# Altium footprint library Microcontrolers.PcbLib: 11 footprints
Each footprint in its own frame and in the unit in brackets; x right, y up, seen from the top. Pads: shape width x height; smd on the part's side, far side on the other; paste and mask are expansions set on the pad; w line width, h text height; cw(c..) or ccw(c..) is an arc to the next point about the centre after c.
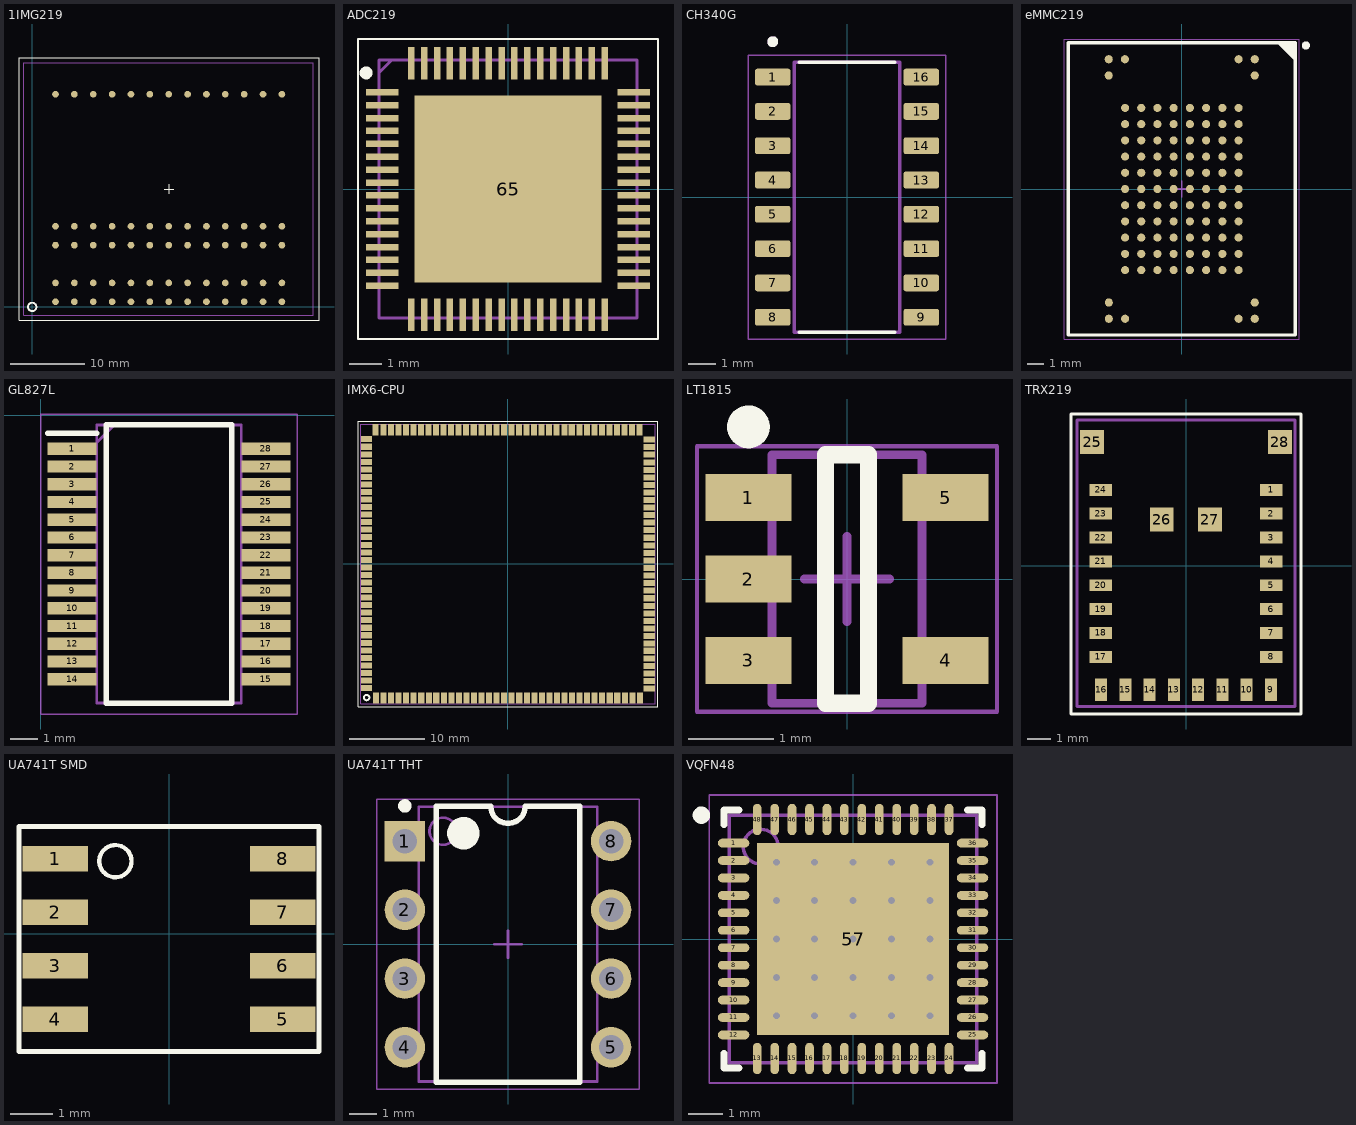
[diagram p0: the footprints below, top view; thin cyan lines are the x and y axes]

## 1IMG219 [mm]
pads (65):
  round 0.9 smd mask+0.102: A1(3.135,0.693) A2(5.675,0.693) A3(8.215,0.693) A4(10.755,0.693) A5(13.295,0.693) A6(15.835,0.693) A7(18.375,0.693) A8(20.915,0.693) A9(23.455,0.693) A10(25.995,0.693) A11(28.535,0.693) A12(31.075,0.693) A13(33.615,0.693) B1(3.135,3.233) B2(5.675,3.233) B3(8.215,3.233) B4(10.755,3.233) B5(13.295,3.233) B6(15.835,3.233) B7(18.375,3.233) B8(20.915,3.233) B9(23.455,3.233) B10(25.995,3.233) B11(28.535,3.233) B12(31.075,3.233) B13(33.615,3.233) D1(3.135,8.313) D2(5.675,8.313) D3(8.215,8.313) D4(10.755,8.313) D5(13.295,8.313) D6(15.835,8.313) D7(18.375,8.313) D8(20.915,8.313) D9(23.455,8.313) D10(25.995,8.313) D11(28.535,8.313) D12(31.075,8.313) D13(33.615,8.313) E1(3.135,10.853) E2(5.675,10.853) E3(8.215,10.853) E4(10.755,10.853) E5(13.295,10.853) E6(15.835,10.853) E7(18.375,10.853) E8(20.915,10.853) E9(23.455,10.853) E10(25.995,10.853) E11(28.535,10.853) E12(31.075,10.853) E13(33.615,10.853) M1(3.135,28.633) M2(5.675,28.633) M3(8.215,28.633) M4(10.755,28.633) M5(13.295,28.633) M6(15.835,28.633) M7(18.375,28.633) M8(20.915,28.633) M9(23.455,28.633) M10(25.995,28.633) M11(28.535,28.633) M12(31.075,28.633) M13(33.615,28.633)
Top Layer:
  lines w0.127: 31.075,28.633 31.151,28.633
Top Overlay:
  circle w0.254: c0,0 r0.568
  lines w0.127: 18.415,15.24 18.415,16.51 ; -1.778,-1.778 -1.778,0 -1.778,33.528 38.608,33.528 38.608,-1.778 -1.778,-1.778 ; 17.78,15.875 18.415,15.875 19.05,15.875 17.78,15.875
Mechanical 1:
  lines w0.127: 33.615,32.893 37.857,32.893 ; 37.857,28.633 37.857,32.893 ; 37.857,32.893 -1.143,32.893 -1.143,-1.107 37.857,-1.107 37.857,32.893

## ADC219 [mm]
pads (65):
  rect 1x0.2 smd: 1(-3.9,3) 2(-3.9,2.6) 3(-3.9,2.2) 4(-3.9,1.8) 5(-3.9,1.4) 6(-3.9,1) 7(-3.9,0.6) 8(-3.9,0.2) 9(-3.9,-0.2) 10(-3.9,-0.6) 11(-3.9,-1) 12(-3.9,-1.4) 13(-3.9,-1.8) 14(-3.9,-2.2) 15(-3.9,-2.6) 16(-3.9,-3) 33(3.9,-3) 34(3.9,-2.6) 35(3.9,-2.2) 36(3.9,-1.8) 37(3.9,-1.4) 38(3.9,-1) 39(3.9,-0.6) 40(3.9,-0.2) 41(3.9,0.2) 42(3.9,0.6) 43(3.9,1) 44(3.9,1.4) 45(3.9,1.8) 46(3.9,2.2) 47(3.9,2.6) 48(3.9,3)
  rect 0.2x1 smd: 17(-3,-3.9) 18(-2.6,-3.9) 19(-2.2,-3.9) 20(-1.8,-3.9) 21(-1.4,-3.9) 22(-1,-3.9) 23(-0.6,-3.9) 24(-0.2,-3.9) 25(0.2,-3.9) 26(0.6,-3.9) 27(1,-3.9) 28(1.4,-3.9) 29(1.8,-3.9) 30(2.2,-3.9) 31(2.6,-3.9) 32(3,-3.9) 49(3,3.9) 50(2.6,3.9) 51(2.2,3.9) 52(1.8,3.9) 53(1.4,3.9) 54(1,3.9) 55(0.6,3.9) 56(0.2,3.9) 57(-0.2,3.9) 58(-0.6,3.9) 59(-1,3.9) 60(-1.4,3.9) 61(-1.8,3.9) 62(-2.2,3.9) 63(-2.6,3.9) 64(-3,3.9)
  rect 5.8x5.8 smd: 65(0,0)
Top Overlay:
  circle w0.2: c-4.4,3.6 r0.1
  lines w0.05: -4.65,-4.65 -4.65,4.65 4.65,4.65 4.65,-4.65 -4.65,-4.65
Mechanical 13:
  lines w0.1: -4,3.6 -3.6,4 ; -4,-4 -4,4 4,4 4,-4 -4,-4
3D body "TPS650940A0RSKR.stp": height 0.98, standoff 0, extent -4,-4 4,4

## CH340G [mm] "SOIC127P600X180-16N"
pads (16):
  rrect25% 1.31x0.62 smd: 1(-2.75,4.445) 2(-2.75,3.175) 3(-2.75,1.905) 4(-2.75,0.635) 5(-2.75,-0.635) 6(-2.75,-1.905) 7(-2.75,-3.175) 8(-2.75,-4.445) 9(2.75,-4.445) 10(2.75,-3.175) 11(2.75,-1.905) 12(2.75,-0.635) 13(2.75,0.635) 14(2.75,1.905) 15(2.75,3.175) 16(2.75,4.445)
Top Overlay:
  circle w0.2: c-2.75,5.755 r0.1
  lines w0.127: -1.775,-5 1.775,-5 -1.775,-5 ; -1.775,5 1.775,5 -1.775,5
Mechanical 13:
  circle w0.2: c-2.75,5.755 r0.1
  lines w0.127: -1.95,-5 1.95,-5 1.95,5 -1.95,5 -1.95,-5
Mechanical 15:
  lines w0.05: -3.655,-5.25 -3.655,5.25 3.655,5.25 3.655,-5.25 -3.655,-5.25
3D body "step_temp.STEP": height 1.8, standoff 0, extent -3,-5 3,5

## eMMC219 [mm] "BGA, 88-Leads, Body 14,00x18,00mmx1,40mm, Pitch 1,00mm"
height 1.4
pads (100):
  round 0.5 smd: A1(4.503,8) A2(3.503,8) A9(-3.503,8) A10(-4.503,8) B1(4.503,7) B10(-4.503,7) D2(3.503,5) D3(2.503,5) D4(1.503,5) D5(0.503,5) D6(-0.497,5) D7(-1.497,5) D8(-2.497,5) D9(-3.497,5) E2(3.503,4) E3(2.503,4) E4(1.503,4) E5(0.503,4) E6(-0.497,4) E7(-1.497,4) E8(-2.497,4) E9(-3.497,4) F2(3.503,3) F3(2.503,3) F4(1.503,3) F5(0.503,3) F6(-0.497,3) F7(-1.497,3) F8(-2.497,3) F9(-3.497,3) G2(3.503,2) G3(2.503,2) G4(1.503,2) G5(0.503,2) G6(-0.497,2) G7(-1.497,2) G8(-2.497,2) G9(-3.497,2) H2(3.503,1) H3(2.503,1) H4(1.503,1) H5(0.503,1) H6(-0.497,1) H7(-1.497,1) H8(-2.497,1) H9(-3.497,1) J2(3.503,0) J3(2.503,0) J4(1.503,0) J5(0.503,0) J6(-0.497,0) J7(-1.497,0) J8(-2.497,0) J9(-3.497,0) K2(3.503,-1) K3(2.503,-1) K4(1.503,-1) K5(0.503,-1) K6(-0.497,-1) K7(-1.497,-1) K8(-2.497,-1) K9(-3.497,-1) L2(3.503,-2) L3(2.503,-2) L4(1.503,-2) L5(0.503,-2) L6(-0.497,-2) L7(-1.497,-2) L8(-2.497,-2) L9(-3.497,-2) M2(3.503,-3) M3(2.503,-3) M4(1.503,-3) M5(0.503,-3) M6(-0.497,-3) M7(-1.497,-3) M8(-2.497,-3) M9(-3.497,-3) N2(3.503,-4) N3(2.503,-4) N4(1.503,-4) N5(0.503,-4) N6(-0.497,-4) N7(-1.497,-4) N8(-2.497,-4) N9(-3.497,-4) P2(3.503,-5) P3(2.503,-5) P4(1.503,-5) P5(0.503,-5) P6(-0.497,-5) P7(-1.497,-5) P8(-2.497,-5) P9(-3.497,-5) T1(4.503,-7) T10(-4.497,-7) U1(4.503,-8) U2(3.503,-8) U9(-3.497,-8) U10(-4.497,-8)
Top Overlay:
  circle w0.25: c7.65,8.85 r0.125
  region: 6,9 7,8 7,9
  lines w0.2: 6,9 7,8 ; -7,-9 7,-9 7,9.017 -7,9.017 -7,-9
Mechanical 13:
  lines w0.1: -7,-9 7,-9 7,9 -7,9 -7,-9
Mechanical 15:
  lines w0.05: -7.25,-9.25 7.25,-9.25 7.25,9.25 -7.25,9.25 -7.25,-9.25
  lines w0.1: -0.5,0 0.5,0 ; 0,-0.5 0,0.5
3D body "BGA88C100P8X11_1400X1800X140.step": height 1.4, standoff 0, extent -7,-9 7,9

## GL827L [mm]
pads (28):
  rect 1.8x0.45 smd: 1(1.149,-1.236) 2(1.149,-1.886) 3(1.149,-2.536) 4(1.149,-3.186) 5(1.149,-3.836) 6(1.149,-4.486) 7(1.149,-5.136) 8(1.149,-5.786) 9(1.149,-6.436) 10(1.149,-7.086) 11(1.149,-7.736) 12(1.149,-8.386) 13(1.149,-9.036) 14(1.149,-9.686) 15(8.249,-9.686) 16(8.249,-9.036) 17(8.249,-8.386) 18(8.249,-7.736) 19(8.249,-7.086) 20(8.249,-6.436) 21(8.249,-5.786) 22(8.249,-5.136) 23(8.249,-4.486) 24(8.249,-3.836) 25(8.249,-3.186) 26(8.249,-2.536) 27(8.249,-1.886) 28(8.249,-1.236)
Top Overlay:
  lines w0.2: 0.249,-0.661 2.049,-0.661 ; 2.399,-10.561 2.399,-0.361 6.999,-0.361 6.999,-10.561 2.399,-10.561
Mechanical 13:
  lines w0.1: 2.049,-1.011 2.699,-0.361 ; 2.049,-10.561 2.049,-0.361 7.349,-0.361 7.349,-10.561 2.049,-10.561
Mechanical 15:
  lines w0.05: -0.001,-10.961 -0.001,0.039 9.399,0.039 9.399,-10.961 -0.001,-10.961
3D body "FT232RL-TUBE.stp": height 2, standoff 0, extent 0.799,-10.561 8.599,-0.361

## IMX6-CPU [mm]
pads (140):
  rect 0.8x1.5 smd mask+0.2: 1(-17.483,-17.769) 2(-16.483,-17.769) 3(-15.483,-17.769) 4(-14.483,-17.769) 5(-13.483,-17.769) 6(-12.483,-17.769) 7(-11.483,-17.769) 8(-10.483,-17.769) 9(-9.493,-17.769) 10(-8.493,-17.769) 11(-7.493,-17.769) 12(-6.501,-17.769) 13(-5.485,-17.769) 14(-4.493,-17.769) 15(-3.493,-17.769) 16(-2.493,-17.769) 17(-1.488,-17.769) 18(-0.497,-17.769) 19(0.503,-17.769) 20(1.503,-17.769) 21(2.503,-17.769) 22(3.503,-17.769) 23(4.503,-17.769) 24(5.503,-17.769) 25(6.493,-17.769) 26(7.493,-17.769) 27(8.493,-17.769) 28(9.493,-17.769) 29(10.493,-17.769) 30(11.493,-17.769) 31(12.493,-17.769) 32(13.493,-17.769) 33(14.491,-17.769) 34(15.491,-17.769) 35(16.491,-17.769) 36(17.502,-17.769) 71(17.467,17.769) 72(16.467,17.769) 73(15.46,17.769) 74(14.46,17.769) 75(13.46,17.769) 76(12.46,17.769) 77(11.46,17.769) 78(10.46,17.769) 79(9.46,17.769) 80(8.46,17.769) 81(7.47,17.769) 82(6.47,17.769) 83(5.47,17.769) 84(4.478,17.769) 85(3.462,17.769) 86(2.47,17.769) 87(1.47,17.769) 88(0.47,17.769) 89(-0.535,17.769) 90(-1.526,17.769) 91(-2.526,17.769) 92(-3.526,17.769) 93(-4.526,17.769) 94(-5.526,17.769) 95(-6.526,17.769) 96(-7.526,17.769) 97(-8.516,17.769) 98(-9.516,17.769) 99(-10.516,17.769) 100(-11.516,17.769) 101(-12.516,17.769) 102(-13.516,17.769) 103(-14.516,17.769) 104(-15.516,17.769) 105(-16.514,17.769) 106(-17.514,17.769)
  rect 1.5x0.8 smd mask+0.2: 37(18.745,-16.525) 38(18.745,-15.525) 39(18.745,-14.525) 40(18.745,-13.525) 41(18.745,-12.53) 42(18.745,-11.509) 43(18.745,-10.53) 44(18.745,-9.53) 45(18.745,-8.53) 46(18.745,-7.552) 47(18.745,-6.552) 48(18.745,-5.552) 49(18.745,-4.552) 50(18.745,-3.552) 51(18.745,-2.534) 52(18.745,-1.534) 53(18.745,-0.534) 54(18.745,0.466) 55(18.745,1.466) 56(18.745,2.466) 57(18.745,3.466) 58(18.745,4.466) 59(18.745,5.466) 60(18.745,6.466) 61(18.745,7.466) 62(18.745,8.466) 63(18.745,9.466) 64(18.745,10.466) 65(18.745,11.466) 66(18.745,12.466) 67(18.745,13.466) 68(18.743,14.481) 69(18.743,15.481) 70(18.743,16.481) 107(-18.745,16.523) 108(-18.745,15.523) 109(-18.745,14.526) 110(-18.745,13.526) 111(-18.745,12.526) 112(-18.745,11.526) 113(-18.745,10.526) 114(-18.745,9.526) 115(-18.745,8.526) 116(-18.745,7.526) 117(-18.745,6.536) 118(-18.745,5.536) 119(-18.745,4.536) 120(-18.745,3.536) 121(-18.745,2.536) 122(-18.745,1.536) 123(-18.745,0.536) 124(-18.745,-0.455) 125(-18.745,-1.46) 126(-18.745,-2.46) 127(-18.745,-3.46) 128(-18.745,-4.452) 129(-18.745,-5.468) 130(-18.745,-6.46) 131(-18.745,-7.46) 132(-18.745,-8.46) 133(-18.745,-9.45) 134(-18.745,-10.45) 135(-18.745,-11.45) 136(-18.745,-12.45) 137(-18.745,-13.45) 138(-18.745,-14.45) 139(-18.745,-15.45) 140(-18.745,-16.45)
Top Overlay:
  circle w0.254: c-18.72,-17.716 r0.359
  lines w0.127: -19.863,-18.935 19.888,-18.935 19.888,-18.427 19.888,18.911 -19.863,18.911 -19.863,-18.935
Mechanical 1:
  lines w0.127: -19.507,-15.979 -19.507,-18.519 ; -18.706,-16.519 -19.507,-16.519 -19.507,-18.519 ; -17.513,17.731 -17.513,18.481 ; -17.507,-18.519 -19.507,-18.519 ; -17.487,18.481 -17.513,18.481 ; 17.502,-18.519 19.493,-18.519 19.493,18.481 ; 19.47,18.481 19.482,18.481 19.493,18.481 ; 19.483,-18.519 -19.507,-18.519 ; 19.493,16.481 19.493,18.481 ; -19.507,-18.519 -19.507,18.481 ; -19.507,18.481 -17.507,18.481 -17.513,18.481 ; -19.507,18.481 19.493,18.481

## LT1815 [mm] "SMD"
pads (5):
  rect 1x0.55 smd: 1(-1.15,0.95) 2(-1.15,0) 3(-1.15,-0.95) 4(1.15,-0.95) 5(1.15,0.95)
Top Overlay:
  circle w0.25: c-1.15,1.775 r0.125
  lines w0.2: -0.25,-1.45 -0.25,1.45 0.25,1.45 0.25,-1.45 -0.25,-1.45
Mechanical 13:
  lines w0.1: -0.875,-1.45 0.875,-1.45 0.875,1.45 -0.875,1.45 -0.875,-1.45
Mechanical 15:
  lines w0.05: -1.75,-1.55 1.75,-1.55 1.75,1.55 -1.75,1.55 -1.75,-1.55
  lines w0.1: -0.5,0 0.5,0 ; 0,-0.5 0,0.5
3D body: height 1, standoff 0.01, extent -0.875,-1.45 0.875,1.45

## TRX219 [mm]
pads (28):
  rect 0.95x0.5 smd: 1(3.572,3.19) 2(3.572,2.19) 3(3.572,1.19) 4(3.572,0.19) 5(3.572,-0.81) 6(3.572,-1.81) 7(3.572,-2.81) 8(3.572,-3.81) 17(-3.572,-3.81) 18(-3.572,-2.81) 19(-3.572,-1.81) 20(-3.572,-0.81) 21(-3.572,0.19) 22(-3.572,1.19) 23(-3.572,2.19) 24(-3.572,3.19)
  rect 0.5x0.95 smd: 9(3.556,-5.19) 10(2.54,-5.19) 11(1.524,-5.19) 12(0.508,-5.19) 13(-0.508,-5.19) 14(-1.524,-5.19) 15(-2.54,-5.19) 16(-3.556,-5.19)
  rect 1x1 smd: 25(-3.937,5.19) 26(-1.016,1.94) 27(1,1.94) 28(3.937,5.19)
Top Layer:
  lines w0.127: -3.683,-5.19 -3.556,-5.19
Top Overlay:
  lines w0.127: -4.826,-6.206 -4.826,6.367 -3.937,6.367 4.826,6.367 4.826,-6.206 -4.826,-6.206
Mechanical 1:
  lines w0.127: -4.572,6.11 -4.572,3.19 -4.572,-5.89 4.572,-5.89 4.572,3.19 4.572,6.11 ; -4.572,6.113 -3.9,6.113 ; -3.937,6.113 -3.9,6.113 ; 4.572,6.113 0,6.113 -3.9,6.113

## UA741T SMD [mm]
pads (8):
  rect 1.55x0.6 smd: 1(-2.7,1.778) 2(-2.7,0.508) 3(-2.7,-0.762) 4(-2.7,-2.032) 5(2.7,-2.032) 6(2.7,-0.762) 7(2.7,0.508) 8(2.7,1.778)
Top Overlay:
  circle w0.1: c-1.27,1.718 r0.383
  lines w0.127: -3.556,-2.794 -3.556,2.54 2.918,2.54 3.556,2.54 3.556,1.377 3.556,-1.123 3.556,-2.794 2.918,-2.794 -3.556,-2.794
3D body: height 1.5, standoff 0.15, extent -2.032,-2.667 2.032,2.413

## UA741T THT [mm]
pads (8):
  rect 1.5x1.5 hole 0.9: 1(-3.81,3.81)
  round 1.5 hole 0.9: 2(-3.81,1.27) 3(-3.81,-1.27) 4(-3.81,-3.81) 5(3.81,-3.81) 6(3.81,-1.27) 7(3.81,1.27) 8(3.81,3.81)
Top Overlay:
  circle w0.6: c-1.65,4.1 r0.3
  circle w0.25: c-3.81,5.11 r0.125
  lines w0.2: -2.65,-5.1 2.65,-5.1 2.65,5.1 0.635,5.1 cw(c0,5.1) -0.635,5.1 -2.65,5.1 -2.65,-5.1
Mechanical 13:
  circle w0.1: c-2.4,4.175 r0.5
  lines w0.1: -3.3,-5.075 3.3,-5.075 3.3,5.075 -3.3,5.075 -3.3,-5.075
Mechanical 15:
  lines w0.05: -4.85,-5.35 4.85,-5.35 4.85,5.35 -4.85,5.35 -4.85,-5.35
  lines w0.1: -0.5,0 0.5,0 ; 0,-0.5 0,0.5
3D body: height 3.81, standoff 0.89, extent -3.3,-5.075 3.3,5.075
3D body: height 0, standoff -1.6, extent 3.675,3.45 3.945,4.17
3D body: height 2.93, standoff 2.66, extent 3.3,3.31 3.945,4.31
3D body: height 2.66, standoff 0, extent 3.675,3.31 3.945,4.31
3D body: height 0, standoff -1.6, extent 3.675,0.91 3.945,1.63
3D body: height 2.93, standoff 2.66, extent 3.3,0.77 3.945,1.77
3D body: height 2.66, standoff 0, extent 3.675,0.77 3.945,1.77
3D body: height 0, standoff -1.6, extent 3.675,-1.63 3.945,-0.91
3D body: height 2.93, standoff 2.66, extent 3.3,-1.77 3.945,-0.77
3D body: height 2.66, standoff 0, extent 3.675,-1.77 3.945,-0.77
3D body: height 0, standoff -1.6, extent 3.675,-4.17 3.945,-3.45
3D body: height 2.93, standoff 2.66, extent 3.3,-4.31 3.945,-3.31
3D body: height 2.66, standoff 0, extent 3.675,-4.31 3.945,-3.31
3D body: height 0, standoff -1.6, extent -3.945,-4.17 -3.675,-3.45
3D body: height 2.93, standoff 2.66, extent -3.945,-4.31 -3.3,-3.31
3D body: height 2.66, standoff 0, extent -3.945,-4.31 -3.675,-3.31
3D body: height 0, standoff -1.6, extent -3.945,-1.63 -3.675,-0.91
3D body: height 2.93, standoff 2.66, extent -3.945,-1.77 -3.3,-0.77
3D body: height 2.66, standoff 0, extent -3.945,-1.77 -3.675,-0.77
3D body: height 0, standoff -1.6, extent -3.945,0.91 -3.675,1.63
3D body: height 2.93, standoff 2.66, extent -3.945,0.77 -3.3,1.77
3D body: height 2.66, standoff 0, extent -3.945,0.77 -3.675,1.77
3D body: height 0, standoff -1.6, extent -3.945,3.45 -3.675,4.17
3D body: height 2.93, standoff 2.66, extent -3.945,3.31 -3.3,4.31
3D body: height 2.66, standoff 0, extent -3.945,3.31 -3.675,4.31

## VQFN48 [mm] "QFN, 48-Leads, Body 7,10x7,10mm, Pitch 0,50mm, Thermal Pad 5,60x5,50mm, IPC Medium Density"
height 1
pads (57):
  oval 0.9x0.25 smd: 1(-3.425,2.75) 2(-3.425,2.25) 3(-3.425,1.75) 4(-3.425,1.25) 5(-3.425,0.75) 6(-3.425,0.25) 7(-3.425,-0.25) 8(-3.425,-0.75) 9(-3.425,-1.25) 10(-3.425,-1.75) 11(-3.425,-2.25) 12(-3.425,-2.75) 25(3.425,-2.75) 26(3.425,-2.25) 27(3.425,-1.75) 28(3.425,-1.25) 29(3.425,-0.75) 30(3.425,-0.25) 31(3.425,0.25) 32(3.425,0.75) 33(3.425,1.25) 34(3.425,1.75) 35(3.425,2.25) 36(3.425,2.75)
  oval 0.25x0.9 smd: 13(-2.75,-3.425) 14(-2.25,-3.425) 15(-1.75,-3.425) 16(-1.25,-3.425) 17(-0.75,-3.425) 18(-0.25,-3.425) 19(0.25,-3.425) 20(0.75,-3.425) 21(1.25,-3.425) 22(1.75,-3.425) 23(2.25,-3.425) 24(2.75,-3.425) 37(2.75,3.425) 38(2.25,3.425) 39(1.75,3.425) 40(1.25,3.425) 41(0.75,3.425) 42(0.25,3.425) 43(-0.25,3.425) 44(-0.75,3.425) 45(-1.25,3.425) 46(-1.75,3.425) 47(-2.25,3.425) 48(-2.75,3.425)
  rect 0x0 smd: 49(-0.85,0) 50(-0.35,0) 51(0,0.85) 52(0,0.35) 53(0.85,0) 54(0.35,0) 55(0,-0.85) 56(0,-0.35)
  rect 5.5x5.5 smd: 57(0,0)
via 2.2,-2.2 diameter 0.5 hole 0.2
via 1.1,-2.2 diameter 0.5 hole 0.2
via 0,-2.2 diameter 0.5 hole 0.2
via -1.1,-2.2 diameter 0.5 hole 0.2
via -2.2,-2.2 diameter 0.5 hole 0.2
via 2.2,-1.1 diameter 0.5 hole 0.2
via 1.1,-1.1 diameter 0.5 hole 0.2
via 0,-1.1 diameter 0.5 hole 0.2
via -1.1,-1.1 diameter 0.5 hole 0.2
via -2.2,-1.1 diameter 0.5 hole 0.2
via 2.2,0 diameter 0.5 hole 0.2
via 1.1,0 diameter 0.5 hole 0.2
via 0,0 diameter 0.5 hole 0.2
via -1.1,0 diameter 0.5 hole 0.2
via -2.2,0 diameter 0.5 hole 0.2
via 2.2,1.1 diameter 0.5 hole 0.2
via 1.1,1.1 diameter 0.5 hole 0.2
via 0,1.1 diameter 0.5 hole 0.2
via -1.1,1.1 diameter 0.5 hole 0.2
via -2.2,1.1 diameter 0.5 hole 0.2
via 2.2,2.2 diameter 0.5 hole 0.2
via 1.1,2.2 diameter 0.5 hole 0.2
via 0,2.2 diameter 0.5 hole 0.2
via -1.1,2.2 diameter 0.5 hole 0.2
via -2.2,2.2 diameter 0.5 hole 0.2
Top Overlay:
  circle w0.25: c-4.35,3.55 r0.125
  lines w0.2: -3.7,-3.275 -3.7,-3.7 -3.275,-3.7 ; -3.7,3.275 -3.7,3.7 -3.275,3.7 ; 3.275,-3.7 3.7,-3.7 3.7,-3.275 ; 3.275,3.7 3.7,3.7 3.7,3.275
Mechanical 13:
  circle w0.1: c-2.65,2.65 r0.5
  lines w0.1: -3.55,-3.55 3.55,-3.55 3.55,3.55 -3.55,3.55 -3.55,-3.55
Mechanical 15:
  lines w0.05: -4.125,-4.125 4.125,-4.125 4.125,4.125 -4.125,4.125 -4.125,-4.125
  lines w0.1: -0.5,0 0.5,0 ; 0,-0.5 0,0.5
3D body: height 1, standoff 0.02, extent -3.55,-3.55 3.55,3.55